# Altium schematic symbol library D_Schottky_Dual_CA.SchLib: 1 symbol
Pins are listed as number, name and electrical type; pins without a type are passive.

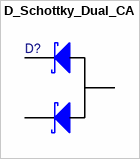
[diagram p0: symbol D_Schottky_Dual_CA]

## D_Schottky_Dual_CA
designator D?
pins: 1 K1, 2 K2, 3 A
1 alternate drawing of the same symbol